# Altium footprint library PowerSO-36.PcbLib: 1 footprints
Each footprint in its own frame and in the unit in brackets; x right, y up, seen from the top. Pads: shape width x height; smd on the part's side, far side on the other; paste and mask are expansions set on the pad; w line width, h text height; cw(c..) or ccw(c..) is an arc to the next point about the centre after c.
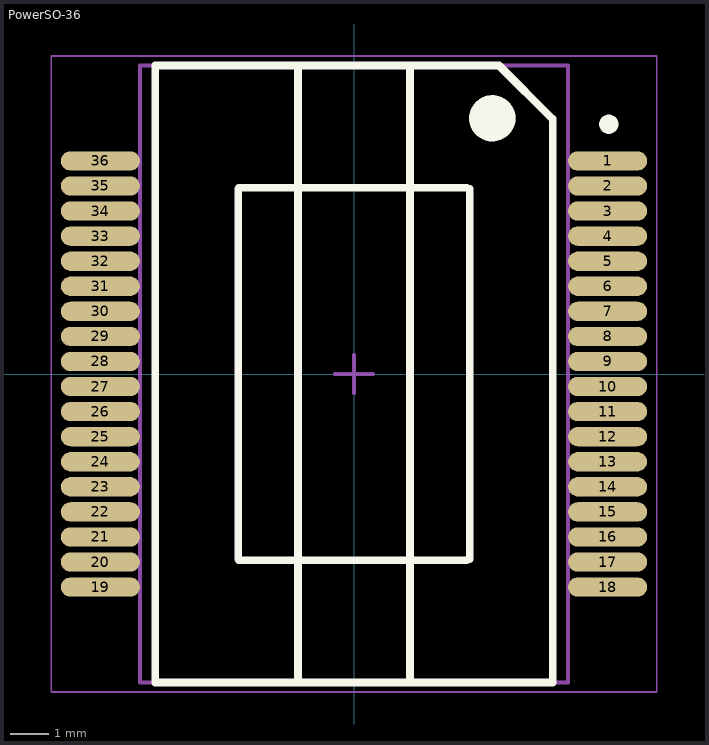
[diagram p0: the footprint, top view; thin cyan lines are the x and y axes]

## PowerSO-36 [mm] "SOP, 36-Leads, Body 15,90x11,00mm, Pitch 0,65mm, IPC Medium Density"
height 3.41
pads (36):
  oval 2.05x0.5 smd: 1(6.575,5.525) 2(6.575,4.875) 3(6.575,4.225) 4(6.575,3.575) 5(6.575,2.925) 6(6.575,2.275) 7(6.575,1.625) 8(6.575,0.975) 9(6.575,0.325) 10(6.575,-0.325) 11(6.575,-0.975) 12(6.575,-1.625) 13(6.575,-2.275) 14(6.575,-2.925) 15(6.575,-3.575) 16(6.575,-4.225) 17(6.575,-4.875) 18(6.575,-5.525) 19(-6.575,-5.525) 20(-6.575,-4.875) 21(-6.575,-4.225) 22(-6.575,-3.575) 23(-6.575,-2.925) 24(-6.575,-2.275) 25(-6.575,-1.625) 26(-6.575,-0.975) 27(-6.575,-0.325) 28(-6.575,0.325) 29(-6.575,0.975) 30(-6.575,1.625) 31(-6.575,2.275) 32(-6.575,2.925) 33(-6.575,3.575) 34(-6.575,4.225) 35(-6.575,4.875) 36(-6.575,5.525)
Top Overlay:
  circle w0.6: c3.586,6.629 r0.3
  circle w0.25: c6.606,6.477 r0.125
  lines w0.2: -3,-4.8 -3,4.8 ; -2.991,-4.826 2.921,-4.826 ; -2.991,4.826 2.921,4.826 ; -1.45,-8 -1.45,8 ; 1.45,-8 1.45,8 ; 3,-4.8 3,4.8 ; -5.15,-8 5.15,-8 5.15,6.61 3.76,8 -5.15,8 -5.15,-8
Mechanical 13:
  circle w0.1: c3.64,6.629 r0.5
  lines w0.1: -5.55,-8 5.55,-8 5.55,8 -5.55,8 -5.55,-8
Mechanical 15:
  lines w0.05: -7.85,-8.25 7.85,-8.25 7.85,8.25 -7.85,8.25 -7.85,-8.25
  lines w0.1: -0.5,0 0.5,0 ; 0,-0.5 0,0.5
3D body "Pwso36Lslup.stp": height 3.41, standoff -0.1, extent -7.087,-7.975 7.157,7.925